# Altium schematic symbol library gap9_deck.SCHLIB: 24 symbols
Pins are listed as number, name and electrical type; pins without a type are passive.

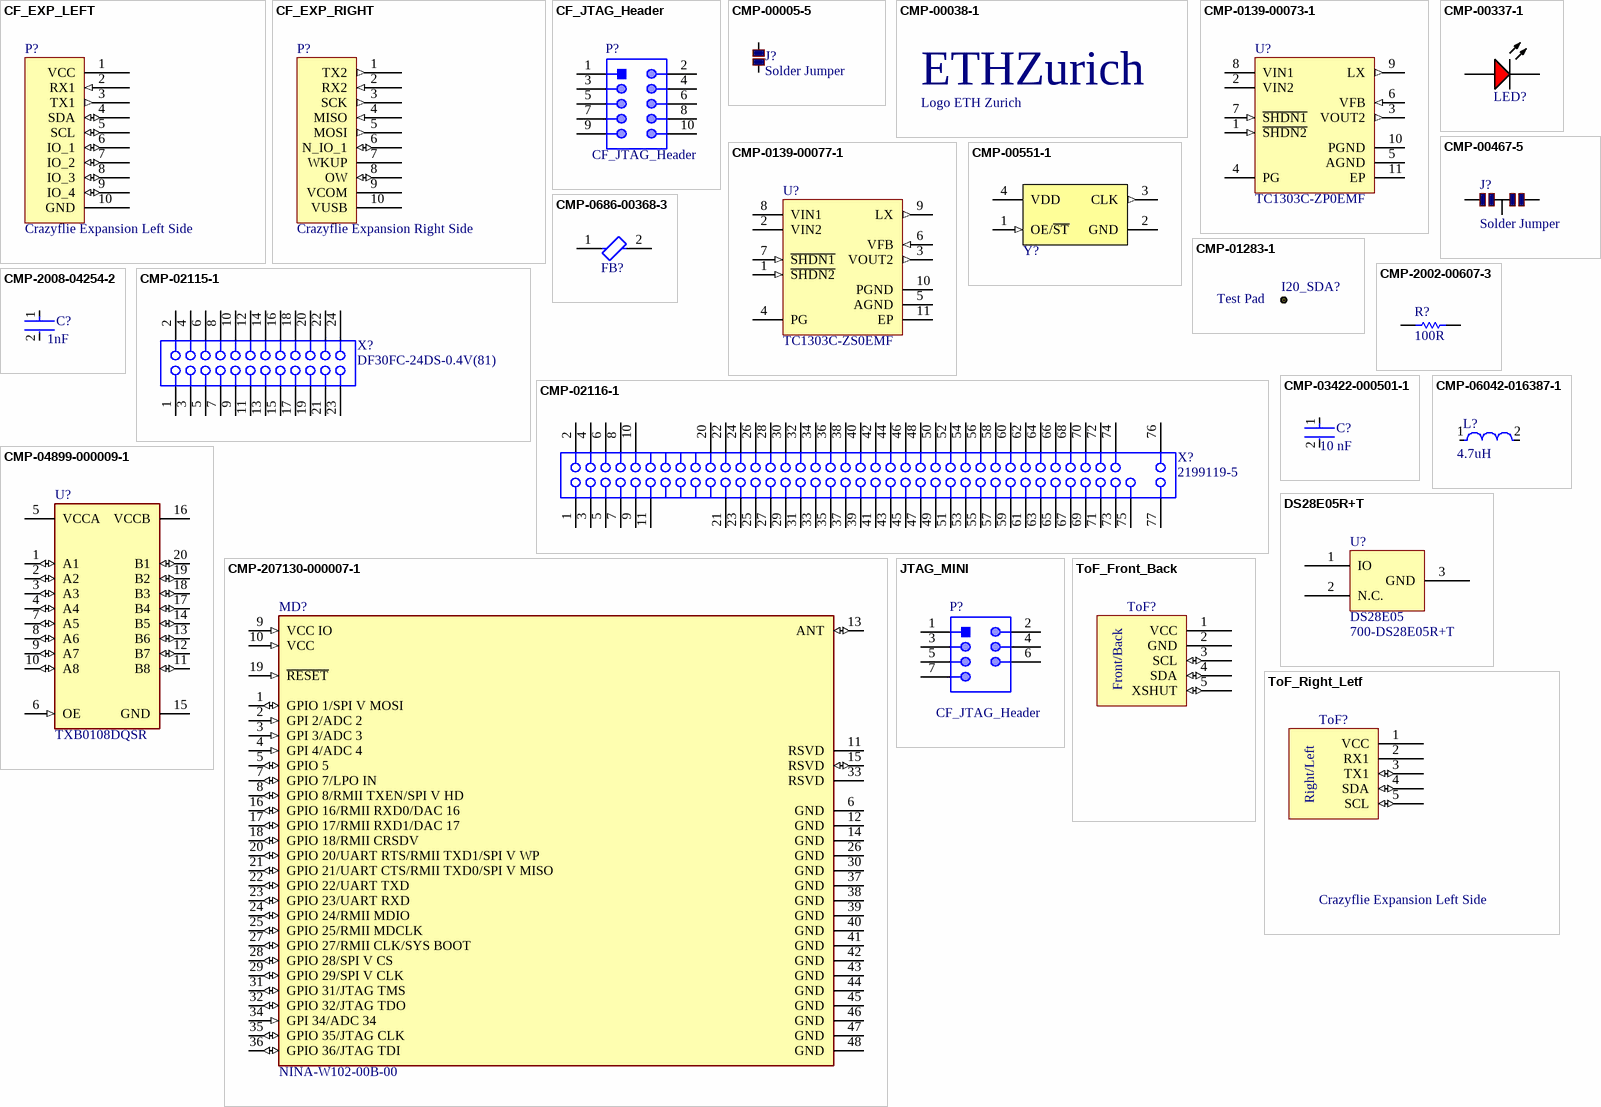
[diagram p0: symbols CF_EXP_LEFT to ToF_Right_Letf]

## CF_EXP_LEFT
designator P?, comment Crazyflie Expansion Left Side
Supplier 1: Digi-Key; Supplier Part Number 1: 110990442-ND
footprint CF2-DECK-SMD-HOLES
pins: 1 VCC (power), 2 RX1 (in), 3 TX1 (out), 4 SDA (io), 5 SCL (io), 6 IO_1 (io), 7 IO_2 (io), 8 IO_3 (io), 9 IO_4 (io), 10 GND (power)

## CF_EXP_RIGHT
designator P?, comment Crazyflie Expansion Right Side
Supplier 1: Digi-Key; Supplier Part Number 1: 110990442-ND
footprint CF2-DECK-SMD-HOLES
pins: 1 TX2 (out), 2 RX2 (in), 3 SCK (out), 4 MISO (in), 5 MOSI (out), 6 N_IO_1 (io), 7 WKUP, 8 OW (io), 9 VCOM (power), 10 VUSB (power)

## CF_JTAG_Header
designator P?
2x10 Pin 50mil Header; Supplier 1: Digi-Key; Supplier Part Number 1: 732-5374-ND
footprint 2x10Pin_Horizontal_50mil (Horizontal 2x20 Pin 50mil Header)
footprint 2x10Pin_Vertical_50mil (Vertical 2x20 Pin 50mil Header)
pins: 1, 2, 3, 4, 5, 6, 7, 8, 9, 10

## CMP-00005-5
designator J?, comment Solder Jumper
Value: 1; Technology: SMT
simulation model SIM-001-0001-1 (Resistor generic model)
footprint Small Solder Jumper (Small Solder Jumper (shortcut with a drop of tin if needed))
footprint Big Solder Jumper (Big Solder Jumper (shortcut with a drop of tin if needed))
footprint Small Solder Jumper 2 (Small Solder Jumper (shortcut with a drop of tin if needed))
footprint Small Solder Jumper 3 (Small Solder Jumper (shortcut with a drop of tin if needed))
pins: 1, 2

## CMP-00038-1
designator A?, comment Logo ETH Zurich  (no BOM)
footprint eth-zurich_3mm (Logo ETH Zurich)
footprint eth-zurich_2mm (Logo ETH Zurich)
footprint eth-zurich_4mm (Logo ETH Zurich)
footprint eth-zurich_5mm (Logo ETH Zurich)
text: ETHZurich

## CMP-0139-00073-1
designator U?, comment TC1303C-ZP0EMF
500mA Synchronous Buck Regulator + 300mA LDO with Power-Good Output, Adjustable, 1.8V, 10-Pin DFN, Industrial Temperature; Manufacturer: Microchip; PackageVersion: revBB, Aug-2009; PackageDescription: 10-Lead Plastic Dual Flat, No Lead Package (MF) - 3x3x0.9mm Body [DFN]; PackageReference: DFN-MF10; DatasheetVersion: revB, Jul-2005; Manufacturer Part Number: TC1303C-ZP0EMF
footprint DFN-MF10 (SON, 10-Leads, Body 3x3mm, Pitch 0.5mm, Microchip Recommended)
pins: 1 ~{SHDN2} (in), 2 VIN2 (power), 3 VOUT2 (out), 4 PG (oc), 5 AGND (power), 6 VFB (in), 7 ~{SHDN1} (in), 8 VIN1 (power), 9 LX (out), 10 PGND (power), 11 EP (power)

## CMP-0139-00077-1
designator U?, comment TC1303C-ZS0EMF
500mA Synchronous Buck Regulator + 300mA LDO with Power-Good Output, Adjustable, 1.5V, 10-Pin DFN, Industrial Temperature; Manufacturer: Microchip; PackageDescription: 10-Lead Plastic Dual Flat, No Lead Package (MF) - 3x3x0.9mm Body [DFN]; PackageVersion: revBB, Aug-2009; DatasheetVersion: revB, Jul-2005; PackageReference: DFN-MF10; Manufacturer Part Number: TC1303C-ZS0EMF
footprint DFN-MF10 (SON, 10-Leads, Body 3x3mm, Pitch 0.5mm, Microchip Recommended)
pins: 1 ~{SHDN2} (in), 2 VIN2 (power), 3 VOUT2 (out), 4 PG (oc), 5 AGND (power), 6 VFB (in), 7 ~{SHDN1} (in), 8 VIN1 (power), 9 LX (out), 10 PGND (power), 11 EP (power)

## CMP-00337-1
designator LED?, comment LNJ247W82RA  (value not drawn)
Red 630nm LED Indication - Discrete 1.95V 0402 (1005 Metric); Manufacturer: Panasonic Electronic Components; Millicandela Rating: 16mcd; Lens Style/Size: Rectangle with Flat Top, 0.70mm x 0.50mm; Current - Test: 5mA; Wavelength - Peak: 645nm; Packaging: Tape & Reel (TR); Part Status: Active; Color: Red; Lens Color: -; Lens Transparency: -; Voltage - Forward (Vf) (Typ): 1.95V; Viewing Angle: -; Mounting Type: Surface Mount; Wavelength - Dominant: 630nm; Features: -; Package / Case: 0402 (1005 Metric); Supplier Device Package: 0402 (1005 Metric); Size / Dimension: 1.00mm L x 0.50mm W; Height (Max): 0.25mm; Manufacturer Part Number: LNJ247W82RA; Supplier: Digi-Key; Supplier Part Number: LNJ247W82RACT-ND; ComponentLink1Description: LNJ247W82RA_E.pdf; ComponentLink1URL: http://www.semicon.panasonic.co.jp/ds4/LNJ247W82RA_E.pdf
footprint LED0402(1005)_N (Chip LED Red, Body 1.0x0.5mm, IPC Medium Density)
footprint LED0402(1005)_L (Chip LED Red, Body 1.0x0.5mm, IPC High Density)
footprint LED0402(1005)_M (Chip LED Red, Body 1.0x0.5mm, IPC Low Density)
pins: 1 A, 2 K

## CMP-00467-5
designator J?, comment Solder Jumper  (no BOM)
Solder Jumper 3 Pads; Technology: SMT
footprint Jumper 3 pins (Jumper 3 pins 0603x2)
footprint Jumper 3 pins_2 (Jumper 3 pins)
pins: 1, 2, 3

## CMP-00551-1
designator Y?, comment KC2520B25.0000C1GE00  (value not drawn)
OSCILLATOR XO 25.000MHZ CMOS SMD; Manufacturer: AVX-Corp-Kyocera-Corp; Frequency: 25MHz; Function: Standby (Power Down); Voltage - Supply: 1.8V, 2.5V, 3.3V; Frequency Stability: ±50ppm; Current - Supply (Max): 3.5mA; Current - Supply (Disable) (Max): 10µA; Category: Crystals and Oscillators; Family: Oscillators; Series: KC2520B-C1, Kyocera; Packaging: Tape &amp; Reel (TR); Type: XO (Standard); ComponentLink1Description: kc2520b_c1_e-514106.pdf; ComponentLink1URL: http://www.mouser.com/ds/2/40/kc2520b_c1_e-514106.pdf; ComponentLink2Description: 0323_03086292; ComponentLink2URL: http://components.arrow.com/part/dataview/0323_03086292; Output: CMOS; Operating Temperature: -40°C ~ 85°C; Ratings: -; Mounting Type: Surface Mount; Size / Dimension: 0.098" L x 0.079" W (2.50mm x 2.00mm); Height: 0.028" (0.70mm); Package / Case: 4-SMD, No Lead (DFN, LCC); Manufacturer Part Number: KC2520B25.0000C1GE00; Supplier: Digikey; Supplier Part Number: 1253-1237-2-ND
footprint NX2520SA (Crystal Surface Mount 4-SMD)
footprint AB-24.000MAGE-T
pins: 1 OE/~{ST} (in), 2 GND (power), 3 CLK (out), 4 VDD (power)

## CMP-0686-00368-3
designator FB?, comment BLM18HE152SN1D  (value not drawn)
Chip Ferrite Bead, 0603, 1500Ω @ 100MHz, 0.5Ω, 25%, 500mA; Manufacturer: Murata; Impedance: 1.5kR; DC Resistance (DCR): 500mR; Number of Circuits: 1; Test Frequency: 100MHz; Case/Package: 0603; Max Operating Temperature: 125°C; Package Quantity: 1; Max DC Current: 500mA; Tolerance: 25%; Core Material: Ferrite; Width: 0.8mm; Number of Pins: 2; Depth: 0.8mm; Radiation Hardening: No; Case Code (Imperial): 0603; Min Operating Temperature: -55°C; Termination: SMD/SMT; Material: Ferrite; Military Standard: Not; Number of Lines: 1; DC Current: 500mA; Length: 1.6mm; REACH SVHC: No SVHC; Lead Free: Lead Free; Current Rating: 500mA; Max Current Rating: 500mA; Packaging: Tape and Reel; Case Code (Metric): 1608; Height: 0.8mm; Manufacturer Part Number: BLM18HE152SN1D
footprint FP-BLM18-0_15-t0_8-IPC_C
footprint FP-BLM18-0_15-t0_8-MFG
footprint FP-BLM18-0_15-t0_8-IPC_A
footprint FP-BLM18-0_15-t0_8-IPC_B
pins: 1, 2

## CMP-01283-1
designator I20_SDA?, comment Test Pad  (no BOM)
1mm SMT Test Pad; Mounting Technology: SMT
footprint Pad-1.5mm (SMT Test Pad)
pins: 1 "Reserved. Connect to VDDIO."

## CMP-2002-00607-3
designator R?, comment 100R
100 Ohm; Manufacturer: Basic Passives; PartNumber: ERJ-2RKF1002X; Manufacturer: Panasonic; Case\/Package: 0402; Voltage Rating: 50 V; Power Rating: 100 mW; Tolerance: 1%; Packaging: Tape and Reel; Width: 0.5 mm; Package Quantity: 10000; Radiation Hardening: No; Min Operating Temperature: -55 degC; Case Code (Imperial): 0402; REACH SVHC: Yes; PackageDescription: 2-Pin Surface Mount Device, Body 1 x 0.5 mm; Length: 1 mm; ComponentLink1Description: Manufacturer URL; PackageReference: 0402; RoHSCompliant: true; Resistance: 100 Ohm; ComponentLink1URL: http://www.panasonic.com/; Height: 0.35 mm; ComponentLink2Description: Datasheet; DatasheetVersion: 04/2015; Mounting Technology: Surface Mount; ComponentLink2URL: http://industrial.panasonic.com/cdbs/www-data/pdf/RDA0000/AOA0000C86.pdf; Max Operating Temperature: 155 degC; Pins: 2; Case Code (Metric): 1005; Mount: Surface Mount; Manufacturer Part Number: ERJ-2RKF1002X
footprint RESC1005X40X25NL05T05 (Chip Resistor, 2-Leads, Body 1.05x0.55mm, IPC Medium Density)
footprint RESC1005X40X25LL05T05 (Chip Resistor, 2-Leads, Body 1.05x0.55mm, IPC High Density)
footprint RESC1005X40X25ML05T05 (Chip Resistor, 2-Leads, Body 1.05x0.55mm, IPC Low Density)
pins: 1, 2

## CMP-2008-04254-2
designator C?, comment 1nF
Chip Multilayer Ceramic Capacitors for General Purpose, 0402, 1000pF, C0G, 30ppm/°C, 5%, 50V; Manufacturer: Murata; Manufacturer Part Number: GRM1555C1H102JA01D; Insulation Resistance: 10GR; Packaging: Tape and Reel; Lead Free: Lead Free; Tolerance: 5%; Temperature Coefficient: 30ppm/°C; Thickness: 0.022inch; Termination: SMD/SMT; Max Operating Temperature: 125°C; Height: 0.5mm; Package Quantity: 1; Radiation Hardening: No; Material: Ceramic; Case Code (Metric): 1005; Number of Pins: 2; Voltage Rating: 50V; Mount: Surface Mount; Voltage: 50V; Case/Package: 0402; Min Operating Temperature: -55°C; Dielectric Material: Ceramic; Width: 0.5mm; Depth: 0.5mm; Case Code (Imperial): 0402; REACH SVHC: No SVHC; Dielectric: C0G; Voltage Rating (DC): 50V; Length: 1mm; Capacitance: 1nF
footprint FP-GRM155-0_05-IPC_B
footprint FP-GRM155-0_05-IPC_A
footprint FP-GRM155-0_05-MFG
footprint FP-GRM155-0_05-IPC_C
pins: 1, 2

## CMP-02115-1
designator X?, comment DF30FC-24DS-0.4V(81)
Board Connector, 24 Contact(s), 2 Row(s), Female, Straight, 0.016 inch Pitch, Surface Mount Terminal, Locking, Black Insulator, Receptacle; MIL Conformance: No; Insulation Resistance: 50MR; Durability: 50Cycles; Mating Information: MULTIPLE MATING PARTS AVAILABLE; Rated Current (Signal): 300mA; PCB Contact Pattern: RECTANGULAR; Contact Resistance: 100mR; Body Breadth: 0.18inch; PCB Contact Row Spacing: 4.1656mm; Reference Standard: UL; Reliability: COMMERCIAL; Number Of Connectors: 1; Additional Feature: Low Profile; Number of Rows Loaded: 2; Body Depth: 0.035inch; Number of Contacts: 24; Option: General Purpose; Body Length: 0.234inch; Dielectric Withstanding Voltage (AC): 100V; Termination: SMD/SMT; Mounting Style: STRAIGHT; Contact Finish - Termination: GOLD; Mount: Board; Contact Gender: Female; DIN Conformance: No; Body/Shell Style: RECEPTACLE; Max Operating Temperature: 85°C; Insulation Material: Polymer; Insulation Color: Black; Mixed Contacts: No; Contact Pattern: RECTANGULAR; Connector Type: BOARD CONNECTOR; Contact Finish - Mating: GOLD; Mating Contact Pitch: 0.016inch; RoHS Compliant: Yes; Terminal Pitch: 0.4mm; Mounting Option 1: LOCKING; REACH SVHC: No SVHC; IEC Conformance: No; Flammability Rating: UL94 V-0; JESD-609 Code: e4; Contact Material: Bronze; Filter Feature: No; Number Of PCB Rows: 2; Min Operating Temperature: -35°C
footprint DF30FC-24DS-0.4V(81) (CONN RCPT 24POS SMD GOLD)
pins: 1, 2, 3, 4, 5, 6, 7, 8, 9, 10, 11, 12, 13, 14, 15, 16, 17, 18, 19, 20, 21, 22, 23, 24

## CMP-02116-1
designator X?, comment 2199119-5
Card Edge Connector, 67 Contact(s), 2 Row(s), Female, Right Angle, 0.02 inch Pitch, Surface Mount Terminal, Black Insulator; Pitch: 0.020" (0.50mm); Read Out: Dual; Card Type: M.2 (NGFF) Mini Card; Material - Insulation: Thermoplastic; Number of Positions: 67; Contact Material: Copper Alloy; Contact Finish: Gold; Contact Finish Thickness: 30.0µin (0.76µm); Number of Rows: 2; Number of Positions/Bay/Row: -; Operating Temperature: -40°C ~ 80°C; Mounting Type: Surface Mount, Right Angle; Color: Black; Card Thickness: -; Base Product Number: 2199119; Termination: Solder; Gender: Female; Contact Type: -; Features: Board Guide; Flange Feature: -
footprint 2199119-5 (CONN FEMALE 67POS 0.020 GOLD)
pins: 1, 2, 3, 4, 5, 6, 7, 8, 9, 10, 11, 20, 21, 22, 23, 24, 25, 26, 27, 28, 29, 30, 31, 32, 33, 34, 35, 36, 37, 38, 39, 40, 41, 42, 43, 44, 45, 46, 47, 48, 49, 50, 51, 52 51, 53, 54 52, 55, 56 53, 57, 58 54, 59, 60 55, 61, 62, 63, 64, 65, 66, 67, 68, 69, 70, 71, 72, 73, 74, 75, 76, 77

## CMP-03422-000501-1
designator C?, comment Capacitance: 10 nF  (hidden comment: 10nF)
CAP CER 10000PF 16V X7R 0402; Manufacturer Part Number: CC0402KRX7R7BB103; Manufacturer: YAGEO; Automotive Grade: NA; Material: Ceramic; Tolerance: 0.1; Temperature Coefficient: 30ppm/°C; Temperature Range Low: -55°C; Temperature Range High: +125°C; Mouser Description: 0402 10 nF 16 V ±10 % Tolerance X7R SMT Multilayer Ceramic Capacitor; Footprint Url: http://www.yageo.com/exep/pages/download/literatures/UPY-C_GEN_24.pdf; Category: Cap; RoHS: TRUE; ComponentLink2Description: Datasheet; Ipc Land Pattern Name: CAPC10050X50; Value: 10 nF; Automotive: No; ComponentLink2URL: http://www.yageo.com/documents/recent/UPY-GP_NP0_16V-to-50V_16.pdf; Device Class L1: Passive Components; Height: 0.55mm; Temperature Characteristic: X7R; Package: CC0402; Voltage Rating: 16 V; Device Class L3: Ceramic Capacitors; Lead Free: Yes; Device Class L2: Capacitors; Digikey Description: CAP CER 10000PF 16V X7R 0402; Octopart: https://octopart.com/cc0402krx7r7bb103-yageo-192895; Temperature: -55°C to +125°C; Manufacturer: Yageo
footprint FP-CC0402-MFG
footprint FP-CC0402-IPC_C
footprint FP-CC0402-IPC_B
footprint FP-CC0402-IPC_A
pins: 1, 2

## CMP-04899-000009-1
designator U?, comment TXB0108DQSR
IC TRNSLTR BIDIRECTIONAL 20USON; Manufacturer: Texas Instruments; Nominal Supply Current: 0.05-3.5uA; Propagation Delay: 4ns; Max Supply Voltage: 5.5V; V A Min: 1.2V; Max Junction Temp: +150°C; Logic Function Desc: Non-Inverting; Number Of Inputs: 1; V A Max: 3.6V; Number Of Circuits: 8; V B Min: 1.65V; Standoff Height: 0mm; Data Rate: 100Mbits/s; Automotive: No; Mouser Description: Translation - Voltage Levels 8B Bidir Vltg-Level Translator; Category: IC; Temperature Range Low: -40°C; Package: DQS0020A; Manufacturer Part Number: TXB0108DQSR; ComponentLink2Description: Datasheet; Device Class L3: Voltage Level Shifters; Device Class L2: Logic ICs; Temperature Range High: +85°C; Digikey Description: IC TRNSLTR BIDIRECTIONAL 20USON; Octopart: https://octopart.com/txb0108dqsr-texas+instruments-18562890; RoHS: TRUE; Ambient Temperature Range High: +85°C; Lead Free: Yes; V B Max: 5.5V; ComponentLink2URL: https://www.ti.com/lit/ds/symlink/txb0108.pdf; Height: 0.55mm; Ambient Temperature Range Low: -40°C; Temperature: -40°C to +85°C; Number Of Outputs: 1; Min Supply Voltage: 1.2V; Device Class L1: Integrated Circuits (ICs)
footprint FP-DQS0020A-MFG
pins: 1 A1 (io), 2 A2 (io), 3 A3 (io), 4 A4 (io), 5 VCCA (power), 6 OE (in), 7 A5 (io), 8 A6 (io), 9 A7 (io), 10 A8 (io), 11 B8 (io), 12 B7 (io), 13 B6 (io), 14 B5 (io), 15 GND (power), 16 VCCB (power), 17 B4 (io), 18 B3 (io), 19 B2 (io), 20 B1 (io)

## CMP-06042-016387-1
designator L?, comment Inductance: 4.7uH  (hidden comment: LQM18FN4R7M00D)
FIXED IND 4.7UH 80MA 600 MOHM; Manufacturer: Murata; Self Resonant Frequency: 50MHz; Core Material: Ferrite; DC Resistance (DCR): 600mR; Test Frequency: 1MHz; Shielding: Shielded; Tolerance: 20%; Max DC Current: 80mA; Width: 0.031inch; RoHS Compliant: Yes; Packaging: Tape and Reel; Case Code (Metric): 1608; Weight: 7.1E-05oz; Lead Free: Lead Free; DC Current: 80mA; Height - Seated (Max): 0.035inch; Rated Current-Max: 80mA; Max Operating Temperature: 125°C; Height: 0.8mm; Radiation Hardening: No; Current Rating: 80mA; Package Quantity: 4000; Case Code (Imperial): 0603; Case/Package: 0603; Termination: SMD/SMT; Min Operating Temperature: -55°C; Mount: Surface Mount; Series: LQM18F; Saturation Current: 80mA; Depth: 0.9mm; Military Standard: Not; Length: 1.6mm; Manufacturer Part Number: LQM18FN4R7M00D
footprint FP-LQM18FN_00-IPC_A
footprint FP-LQM18FN_00-IPC_C
footprint FP-LQM18FN_00-MFG
footprint FP-LQM18FN_00-IPC_B
pins: 1, 2

## CMP-207130-000007-1
designator MD?, comment NINA-W102-00B-00
STAND-ALONE MULTIRADIO MODULES; Manufacturer: U-Blox; Max Supply Voltage: 3.6V; Number Of Adc Channels: 17; Receiving Current: 100-140mA; Nominal Supply Current: 30-190mA; Data Rate: 100Mbits/s; Max Frequency: 2.5GHz; Sensitivity: -96dBm; Min Supply Voltage: 3V; Interface: I2C,SPI,UART,CAN,Ethernet,I2S,Other; Bandwidth: 20MHz; Transmitting Current: 225-320mA; Number Of Gpio: 20; Device Class L3: Transceivers; Octopart: https://octopart.com/nina-w102-00b-00-u-blox-103157672; Automotive: No; Category: UNK; Temperature: -40°C to +85°C; Lead Free: Yes; Device Class L1: Integrated Circuits (ICs); ComponentLink2Description: Datasheet; Manufacturer Part Number: NINA-W102-00B-00; Temperature Range Low: -40°C; Package: 0; Temperature Range High: +85°C; Digikey Description: STAND-ALONE MULTIRADIO MODULES; Device Class L2: RF Semiconductors and Devices; ComponentLink2URL: https://www.u-blox.com/sites/default/files/NINA-W10_DataSheet_%28UBX-17065507%29.pdf; RoHS: TRUE; Height: 4.2mm; Manufacturer: u-blox
footprint FP-NINA-W102-00B-00-MFG
pins: 1 GPIO 1/SPI V MOSI (io), 2 GPI 2/ADC 2 (in), 3 GPI 3/ADC 3 (in), 4 GPI 4/ADC 4 (in), 5 GPIO 5 (io), 6 GND (power), 7 GPIO 7/LPO IN (io), 8 GPIO 8/RMII TXEN/SPI V HD (io), 9 VCC IO (in), 10 VCC (in), 11 RSVD, 12 GND (power), 13 ANT (io), 14 GND (power), 15 RSVD (io), 16 GPIO 16/RMII RXD0/DAC 16 (io), 17 GPIO 17/RMII RXD1/DAC 17 (io), 18 GPIO 18/RMII CRSDV (io), 19 ~{RESET} (in), 20 GPIO 20/UART RTS/RMII TXD1/SPI V WP (io), 21 GPIO 21/UART CTS/RMII TXD0/SPI V MISO (io), 22 GPIO 22/UART TXD (io), 23 GPIO 23/UART RXD (io), 24 GPIO 24/RMII MDIO (io), 25 GPIO 25/RMII MDCLK (io), 26 GND (power), 27 GPIO 27/RMII CLK/SYS BOOT (io), 28 GPIO 28/SPI V CS (io), 29 GPIO 29/SPI V CLK (io), 30 GND (power), 31 GPIO 31/JTAG TMS (io), 32 GPIO 32/JTAG TDO (io), 33 RSVD, 34 GPI 34/ADC 34 (in), 35 GPIO 35/JTAG CLK (io), 36 GPIO 36/JTAG TDI (io), 37 GND (power), 38 GND (power), 39 GND (power), 40 GND (power), 41 GND (power), 42 GND (power), 43 GND (power), 44 GND (power), 45 GND (power), 46 GND (power), 47 GND (power), 48 GND (power)

## DS28E05R+T
designator U?, comment DS28E05  Supplier Part Number 1: 700-DS28E05R+T
EEPROM 1-Wire 112-BYTE; Supplier 1: Mouser
footprint SOT23-3
pins: 1 IO, 2 N.C., 3 GND

## JTAG_MINI
designator P?, comment CF_JTAG_Header
2x10 Pin 50mil Header; Supplier 1: Digi-Key; Supplier Part Number 1: 732-5374-ND
footprint JTAG_MINI
pins: 1, 2, 3, 4, 5, 6, 7

## ToF_Front_Back
designator ToF?
Supplier 1: Digi-Key; Supplier Part Number 1: 110990442-ND
footprint ToF_Front_Back (1mm pitch)
pins: 1 VCC (power), 2 GND (power), 3 SCL (io), 4 SDA (io), 5 XSHUT (io)
text: Front/Back

## ToF_Right_Letf
designator ToF?, comment Crazyflie Expansion Left Side
Supplier 1: Digi-Key; Supplier Part Number 1: 110990442-ND
footprint ToF_Right_Left (1mm pitch)
pins: 1 VCC (power), 2 RX1 (power), 3 TX1 (io), 4 SDA (io), 5 SCL (io)
text: Right/Left